# Altium schematic symbol library FDS3672.SchLib: 1 symbol
Pins are listed as number, name and electrical type; pins without a type are passive.

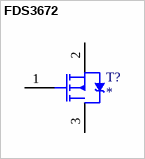
[diagram p0: symbol FDS3672]

## FDS3672
designator T?
N channel Power MosFET; Наименование: FDS3672; Назначение: Транзистор верхнего плеча, для "идеального" диода; Потребление, Вт: 0,025
footprint SO-8 Transistor
pins: 1 G, 2 D, 3 S